# EAGLE library part 67997-106HLF (library 67997-106HLF)
BergStik, Board to Board connector, Unshrouded vertical header, Through Hole, Double Row, 6 Positions, 2.54 mm (0.100in) Pitch Source: Datasheet <https://cdn.amphenol-cs.com/media/wysiwyg/files/drawing/67996.pdf>
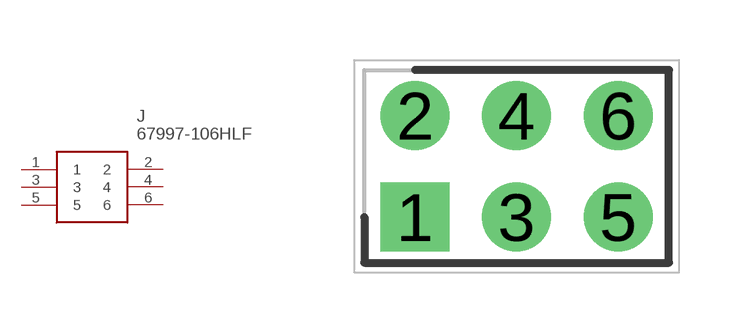
[diagram p0: symbol with the pads of HDRV6W67P254_2X3_762X483X838P; footprint HDRV6W67P254_2X3_762X483X838P]

Designator prefix J

## 67997-106HLF (Arrow_Part_Number: 67997-106HLF; Arrow_Price-Stock: https://www.arrow.com/en/products/67997-106hlf/amphenol-fci?region=nac; Description: BergStik, Board to Board connector, Unshrouded vertical header, Through Hole, Double Row, 6 Positions, 2.54 mm (0.100in) Pitch; Height: 8.38mm; Manufacturer_Name: Amphenol Communication Solutions; Manufacturer_Part_Number: 67997-106HLF; Mouser_Part_Number: 649-67997-106HLF; Mouser_Price-Stock: https://www.mouser.co.uk/ProductDetail/Amphenol-FCI/67997-106HLF?qs=zh4O8xspOuyE7IwD3CxQ4w%3D%3D)  [HDRV6W67P254_2X3_762X483X838P]
1  1
2  2
3  3
4  4
5  5
6  6

## Footprint HDRV6W67P254_2X3_762X483X838P (pad centres in mm)
67997-106HLF
drill 1.15 pad 1.725 square: 1 0,0
drill 1.15 pad 1.725: 2 0,2.54; 3 2.54,0; 4 2.54,2.54; 5 5.08,0; 6 5.08,2.54